# EAGLE library part CH340G (library Komputronika)
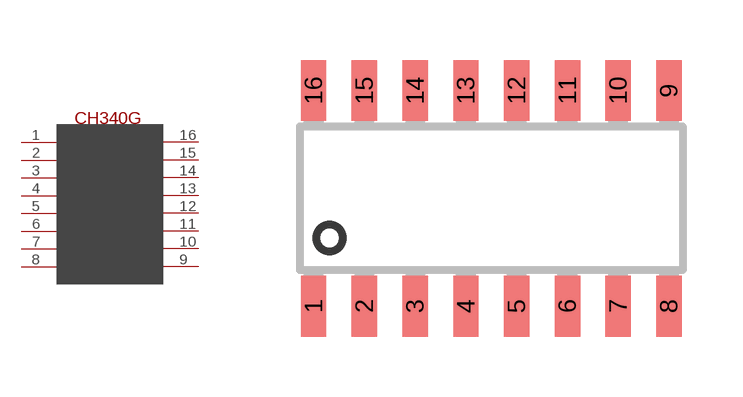
[diagram p10: symbol with the pads of SOIC16; footprint SOIC16]

Designator prefix -

## CH340G  [SOIC16]
1  GND
2  TX
3  RX
4  V3
5  D+
6  D-
7  XI
8  XO
9  CTS
10  DSR
11  RI
12  DCD
13  DTR
14  RTS
15  RS232
16  VCC

## Footprint SOIC16 (pad centres in mm)
SMALL OUTLINE INTEGRATED CIRCUIT 16-Pin (150-Mil) SOIC Source: http://www.cypress.com .. 38-12025_0P_V.pdf
smd 0.635 x 1.524: 1 -4.445,-2.695; 2 -3.175,-2.695; 3 -1.905,-2.695; 4 -0.635,-2.695; 5 0.635,-2.695; 6 1.905,-2.695; 7 3.175,-2.695; 8 4.445,-2.695; 9 4.445,2.695; 10 3.175,2.695; 11 1.905,2.695; 12 0.635,2.695; 13 -0.635,2.695; 14 -1.905,2.695; 15 -3.175,2.695; 16 -4.445,2.695